# EAGLE library part CY2309SC-1H (library CY2309SC-1H)
Zero delaybuffer,CY2309SC-1H 10-133.3MHz Source: Datasheet <https://eu.mouser.com/datasheet/2/100/38-07140_CY2305_CY2309_LOW_COST_3.3_V_ZERO_DELAY_B-1020720.pdf>
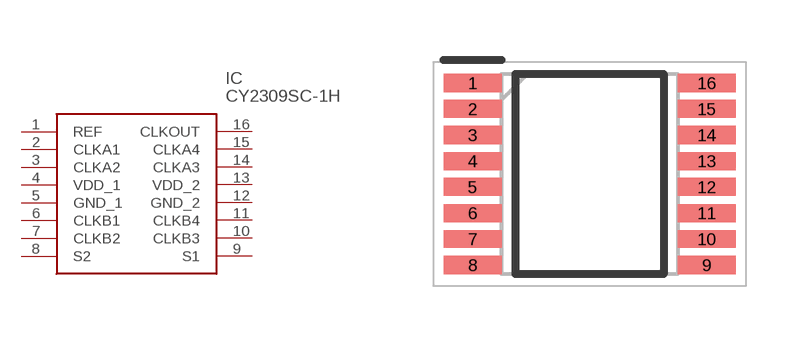
[diagram p0: symbol with the pads of SOP65P638X110-16N; footprint SOP65P638X110-16N]

Designator prefix IC

## CY2309SC-1H (Arrow_Part_Number: CY2309SC-1H; Description: Zero delaybuffer,CY2309SC-1H 10-133.3MHz; Height: 1.1mm; Manufacturer_Name: Cypress Semiconductor; Manufacturer_Part_Number: CY2309SC-1H)  [SOP65P638X110-16N]
1  REF  in
2  CLKA1  out
3  CLKA2  out
4  VDD_1  pwr
5  GND_1  pwr
6  CLKB1  out
7  CLKB2  out
8  S2  in
9  S1  in
10  CLKB3  out
11  CLKB4  out
12  GND_2  pwr
13  VDD_2  pwr
14  CLKA3  out
15  CLKA4  out
16  CLKOUT  out

## Footprint SOP65P638X110-16N (pad centres in mm)
16-PINTSSOP
smd 1.45 x 0.45: 1 -2.925,2.275; 2 -2.925,1.625; 3 -2.925,0.975; 4 -2.925,0.325; 5 -2.925,-0.325; 6 -2.925,-0.975; 7 -2.925,-1.625; 8 -2.925,-2.275; 9 2.925,-2.275; 10 2.925,-1.625; 11 2.925,-0.975; 12 2.925,-0.325; 13 2.925,0.325; 14 2.925,0.975; 15 2.925,1.625; 16 2.925,2.275